# EAGLE library part TUSB2046 (library NBitWonder)
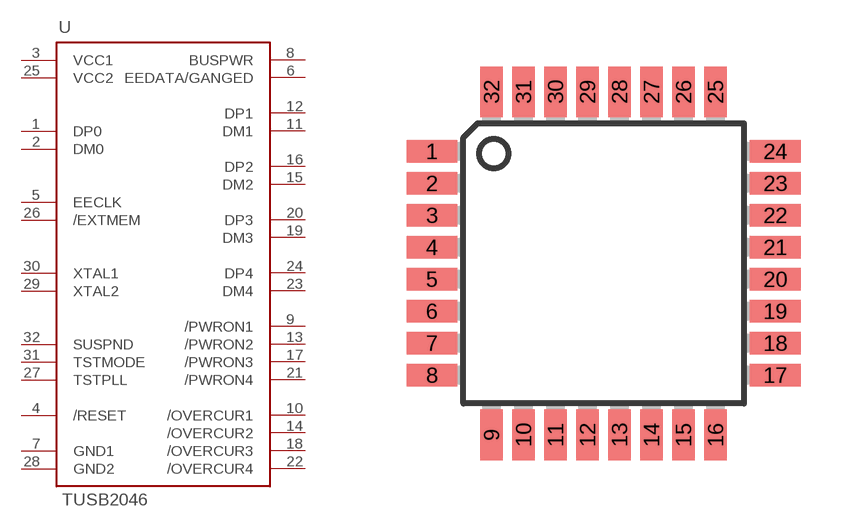
[diagram p4: symbol with the pads of TQFP32-08; footprint TQFP32-08]

Designator prefix -

## TUSB2046  [TQFP32-08]
1  DP0
2  DM0
3  VCC1  pwr
4  /RESET
5  EECLK
6  EEDATA/GANGED
7  GND1  pwr
8  BUSPWR
9  /PWRON1
10  /OVERCUR1
11  DM1
12  DP1
13  /PWRON2
14  /OVERCUR2
15  DM2
16  DP2
17  /PWRON3
18  /OVERCUR3
19  DM3
20  DP3
21  /PWRON4
22  /OVERCUR4
23  DM4
24  DP4
25  VCC2  pwr
26  /EXTMEM
27  TSTPLL
28  GND2  pwr
29  XTAL2
30  XTAL1
31  TSTMODE
32  SUSPND

## Footprint TQFP32-08 (pad centres in mm)
Thin Plasic Quad Flat Package Grid 0.8 mm
smd 1.27 x 0.559: 1 -4.293,2.8; 2 -4.293,2; 3 -4.293,1.2; 4 -4.293,0.4; 5 -4.293,-0.4; 6 -4.293,-1.2; 7 -4.293,-2; 8 -4.293,-2.8; 17 4.293,-2.8; 18 4.293,-2; 19 4.293,-1.2; 20 4.293,-0.4; 21 4.293,0.4; 22 4.293,1.2; 23 4.293,2; 24 4.293,2.8
smd 0.559 x 1.27: 9 -2.8,-4.293; 10 -2,-4.293; 11 -1.2,-4.293; 12 -0.4,-4.293; 13 0.4,-4.293; 14 1.2,-4.293; 15 2,-4.293; 16 2.8,-4.293; 25 2.8,4.293; 26 2,4.293; 27 1.2,4.293; 28 0.4,4.293; 29 -0.4,4.293; 30 -1.2,4.293; 31 -2,4.293; 32 -2.8,4.293